# EAGLE library part SDCARD (library manualControl)
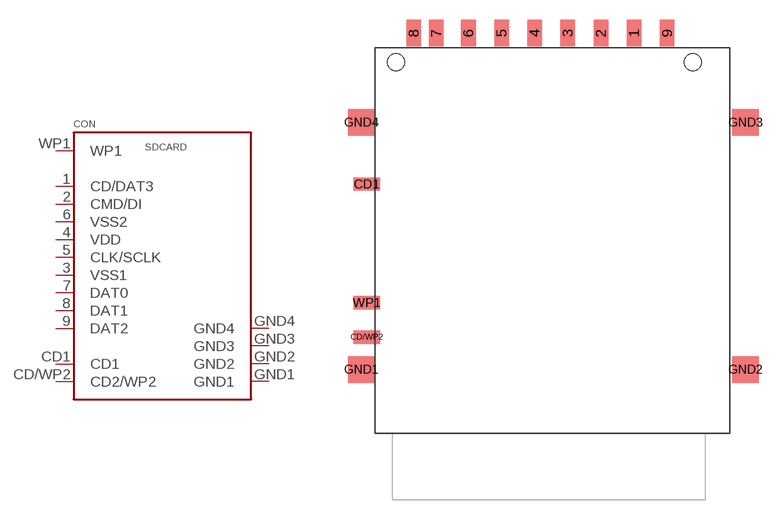
[diagram p5: symbol with the pads of SDDM1_STD; footprint SDDM1_STD]

Designator prefix CON

## SDCARD  [SDDM1_STD]
1  CD/DAT3
2  CMD/DI
3  VSS1  pwr
4  VDD  pwr
5  CLK/SCLK
6  VSS2  pwr
7  DAT0
8  DAT1
9  DAT2
CD1  CD1  out
CD/WP2  CD2/WP2
GND1  GND1  pwr
GND2  GND2  pwr
GND3  GND3  pwr
GND4  GND4  pwr
WP1  WP1  out

## Footprint SDDM1_STD (pad centres in mm)
smd 1.1 x 2: 1 6.775,12.2; 2 4.275,12.2; 3 1.775,12.2; 4 -0.725,12.2; 5 -3.225,12.2; 6 -5.725,12.2; 7 -8.15,12.2; 8 -9.85,12.2; 9 9.275,12.2
smd 2 x 1: CD1 -13.4,0.8; CD/WP2 -13.4,-10.75; WP1 -13.4,-8.15
smd 2 x 2: GND1 -13.8,-13.2; GND2 15.2,-13.2; GND3 15.2,5.45; GND4 -13.8,5.45
hole 1.3 at 11.2,10
hole 1.3 at -11.2,10